# Altium schematic symbol library AltiumDabaseLib.SchLib: 7 symbols
Pins are listed as number, name and electrical type; pins without a type are passive.

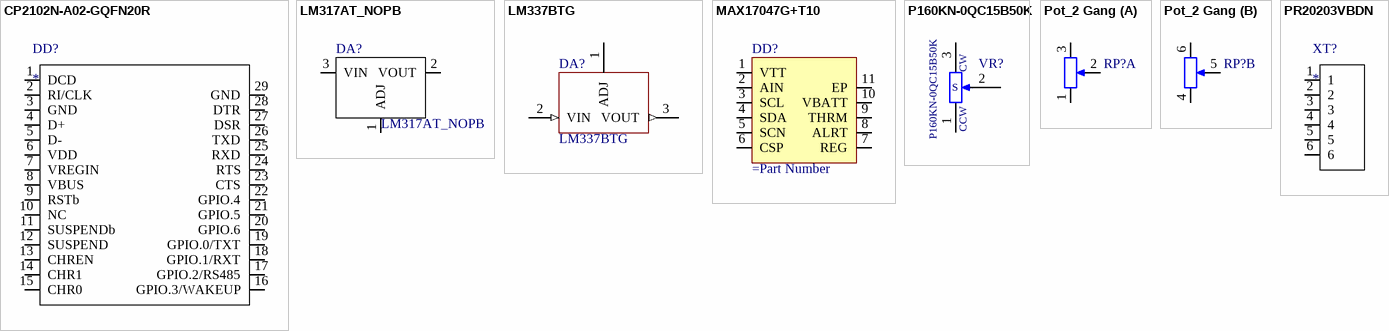
[diagram p0: symbols CP2102N-A02-GQFN20R to PR20203VBDN]

## CP2102N-A02-GQFN20R
designator DD?
pins: 1 DCD, 2 RI/CLK, 3 GND, 4 D+, 5 D-, 6 VDD, 7 VREGIN, 8 VBUS, 9 RSTb, 10 NC, 11 SUSPENDb, 12 SUSPEND, 13 CHREN, 14 CHR1, 15 CHR0, 16 GPIO.3/WAKEUP, 17 GPIO.2/RS485, 18 GPIO.1/RXT, 19 GPIO.0/TXT, 20 GPIO.6, 21 GPIO.5, 22 GPIO.4, 23 CTS, 24 RTS, 25 RXD, 26 TXD, 27 DSR, 28 DTR, 29 GND

## LM317AT_NOPB
designator DA?
Integrated Circuit; Manufacturer_Name: Texas Instruments; Manufacturer_Part_Number: LM317AT/NOPB; Datasheet Link: http://www.ti.com/lit/gpn/lm317a; Height: 4.7mm; Mouser Part Number: 926-LM317AT/NOPB; Mouser Price/Stock: https://www.mouser.co.uk/ProductDetail/Texas-Instruments/LM317AT-NOPB?qs=X1J7HmVL2ZFYFJRcNgsWcQ%3D%3D; Arrow Part Number: LM317AT/NOPB; Arrow Price/Stock: https://www.arrow.com/en/products/lm317atnopb/texas-instruments
footprint TO254P470X1028X1955-3P
pins: 1 ADJ, 2 VOUT, 3 VIN

## LM337BTG
designator DA?
Integrated Circuit; Manufacturer_Name: ON Semiconductor; Datasheet Link: http://www.onsemi.com/pub/Collateral/LM337-D.PDF; Height: 4.82mm; Manufacturer_Part_Number: LM337BTG; Mouser Part Number: 863-LM337BTG; Mouser Price/Stock: https://www.mouser.co.uk/ProductDetail/ON-Semiconductor/LM337BTG?qs=2OtswVQKCOGoOfwNKxF%2F1w%3D%3D; Arrow Part Number: LM337BTG; Arrow Price/Stock: https://www.arrow.com/en/products/lm337btg/on-semiconductor
footprint TO254P482X997X2018-3P
pins: 1 ADJ, 2 VIN (in), 3 VOUT (out)

## MAX17047G+T10
designator DD?
pins: 1 VTT, 2 AIN, 3 SCL, 4 SDA, 5 SCN, 6 CSP, 7 REG, 8 ALRT, 9 THRM, 10 VBATT, 11 EP

## P160KN-0QC15B50K
designator VR?
Variable Resistor; Manufacturer_Name: BI Technologies; Datasheet Link: https://componentsearchengine.com/Datasheets/1/P160KN-0QC15B50K.pdf; Height: 20.75mm; Manufacturer_Part_Number: P160KN-0QC15B50K; Mouser Part Number: 858-P160KN-0QC15B50K; Mouser Price/Stock: https://www.mouser.com/Search/Refine.aspx?Keyword=858-P160KN-0QC15B50K; Arrow Part Number: P160KN-0QC15B50K; Arrow Price/Stock: https://www.arrow.com/en/products/p160kn-0qc15b50k/bi-technologies
footprint P160KN0QC15B50K
pins: 1 CCW, 2 S, 3 CW

## Pot_2 Gang
designator RP?, comment 20k 2 gang  (value not drawn)
Potentiometers 20K LINEAR 2 GANGED FLATTED METAL SHAFT; Manufacturer Part Number: PTD902-1015P-B203; Part Number: 20K; HelpURL: https://eu.mouser.com/ProductDetail/Bourns/PTD902-1015P-B203?qs=QARuOjD9jaHbYfG8RgUe0Q%3D%3D; Package: TH 6 pin; Mouser Part Number: 652-PTD902-1015PB203
footprint PTD902-1220F
part A pins: 1 TOP, 2 BOT, 3 TAP
part B pins: 4 TOP, 5 BOT, 6 TAP

## PR20203VBDN
designator XT?
pins: 1, 2, 3, 4, 5, 6